# Altium integrated library Maxim Digital Potentiometers.IntLib: 1045 symbols (part 2 of 42)
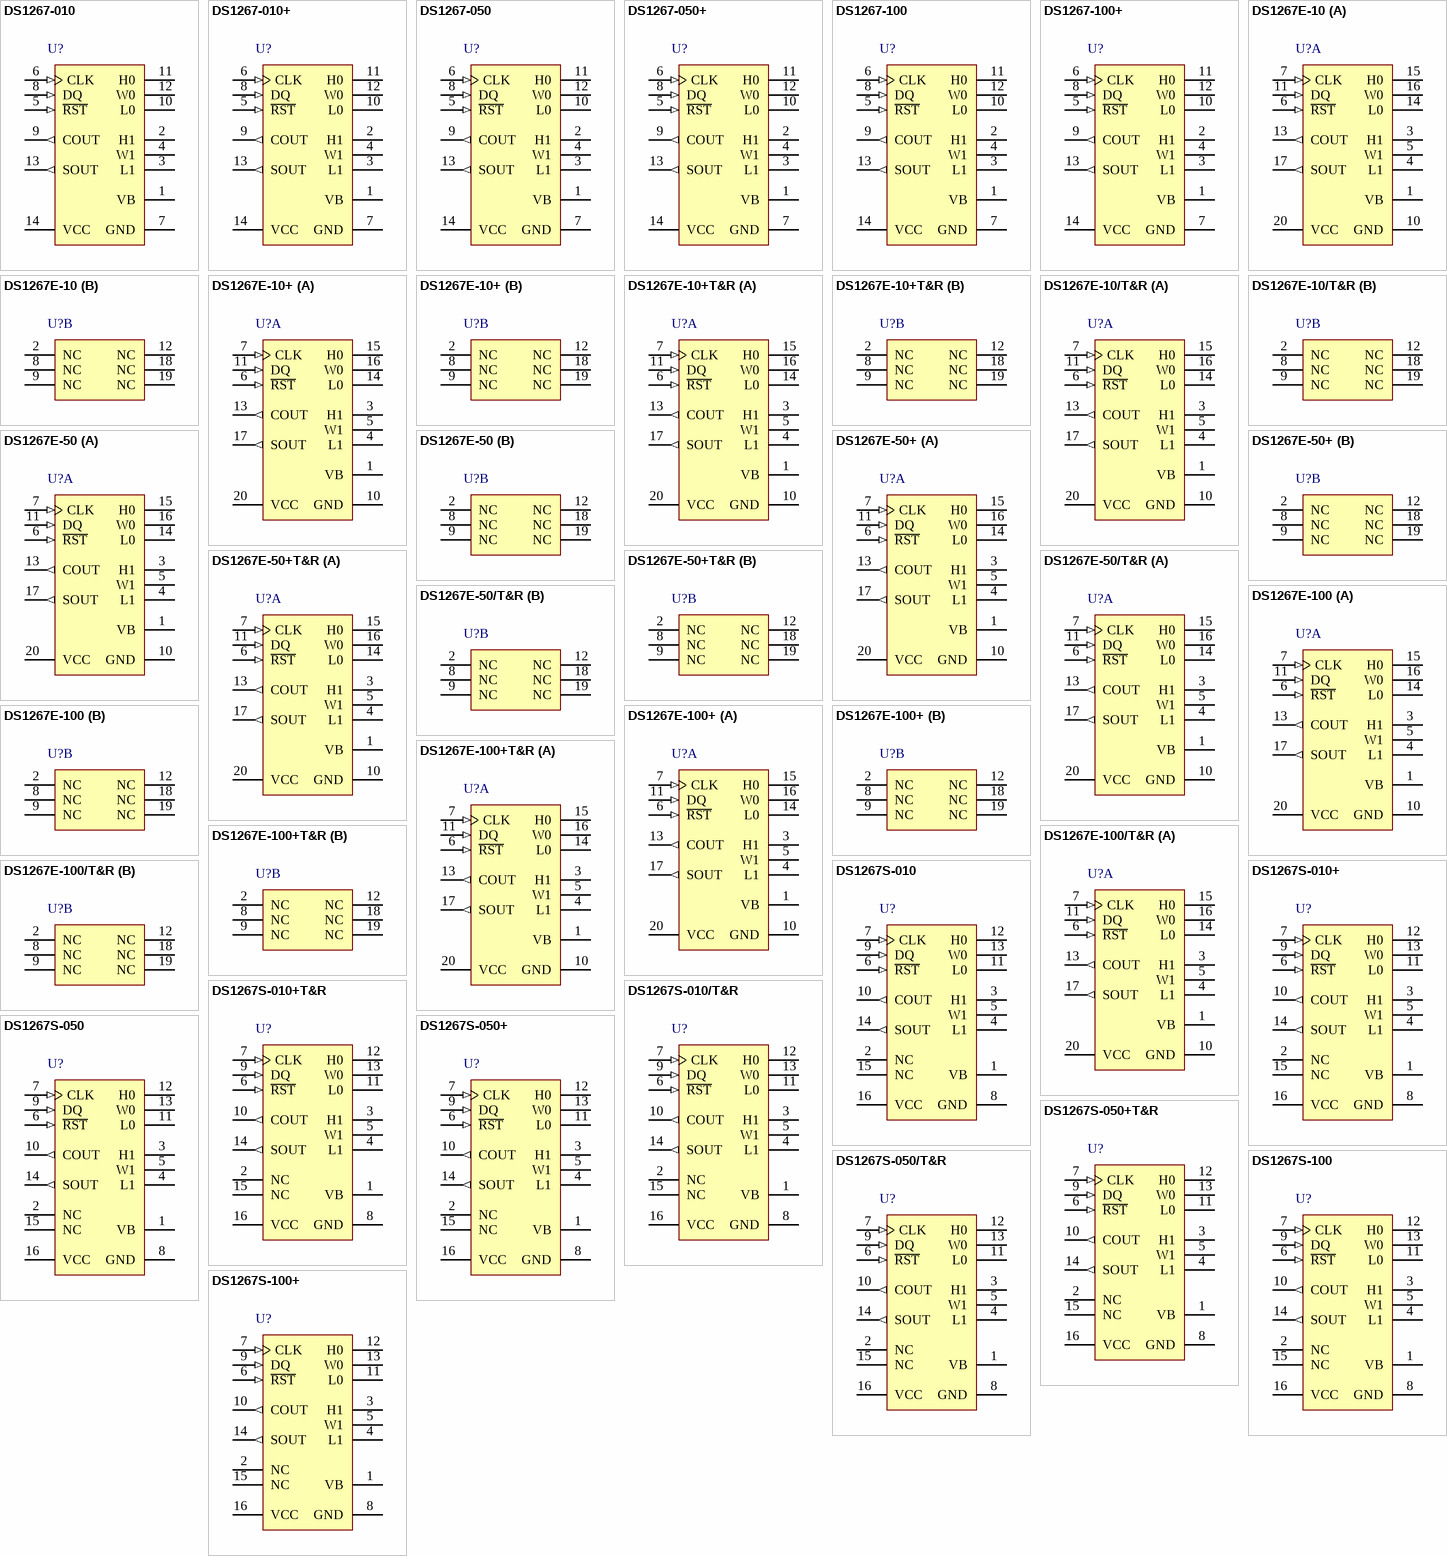
[diagram p30: symbols DS1267-010 to DS1267S-100+]

## DS1267S-100+
designator U?
Dual Digital Potentiometer Chip with 3-Wire Serial Control Interface, Volatile, Linear Taper, 256 Steps, -40 to 85 degC, 16-pin SOIC (W16+2), Pb-Free; PartNumber: DS1267S-100+; DatasheetVersion: Rev. 1; PackageVersion: Rev. F, 10/2012; PackageReference: W16+2; PackageDescription: 16-Pin Small-Outline IC, Wide (0.3in) (W16+2), Body 10.3 x 7.5 mm, Pitch 1.27 mm; Supplier 1: Digi-Key; Supplier Part Number 1: DS1267S-100+-ND; Supplier 2: Farnell; Supplier Part Number 2: 9726292; Supplier 3: Mouser; Supplier Part Number 3: 700-DS1267S-100; Control Interface: 3-Wire Serial; Mounting Technology: Surface Mount; Code_JEDEC: MS013; ComponentLink1Description: Manufacturer URL; ComponentLink1URL: http://www.maximintegrated.com/; ComponentLink2Description: Datasheet; ComponentLink2URL: http://datasheets.maximintegrated.com/en/ds/DS1267.pdf; ComponentLink3Description: Package Specification; ComponentLink3URL: http://pdfserv.maximintegrated.com/package_dwgs/21-0042.PDF
footprint MAXM-W16+2_N (SOIC, 16-Leads, Body 10.3x7.5mm, Pitch 1.27mm, IPC Medium Density)
footprint MAXM-W16+2_L (SOIC, 16-Leads, Body 10.3x7.5mm, Pitch 1.27mm, IPC High Density)
footprint MAXM-W16+2_M (SOIC, 16-Leads, Body 10.3x7.5mm, Pitch 1.27mm, IPC Low Density)
pins: 1 VB (power) "Substrate Bias Voltage", 2 NC "No Internal Connection", 3 H1 "High End of Resistor", 4 L1 "Low End of Resistor", 5 W1 "Wiper Terminal of Resistor", 6 ~{RST} (in) "Serial Port Reset Input", 7 CLK (in) "Serial Port Clock Input", 8 GND (power) "Ground Connections", 9 DQ (in) "Serial Port Data Input", 10 COUT (out) "Cascade Port Output", 11 L0 "Low End of Resistor", 12 H0 "High End of Resistor", 13 W0 "Wiper Terminal of Resistor", 14 SOUT (out) "Stacked Configuration Output", 15 NC "No Internal Connection", 16 VCC (power) "+5 Volt Supply"

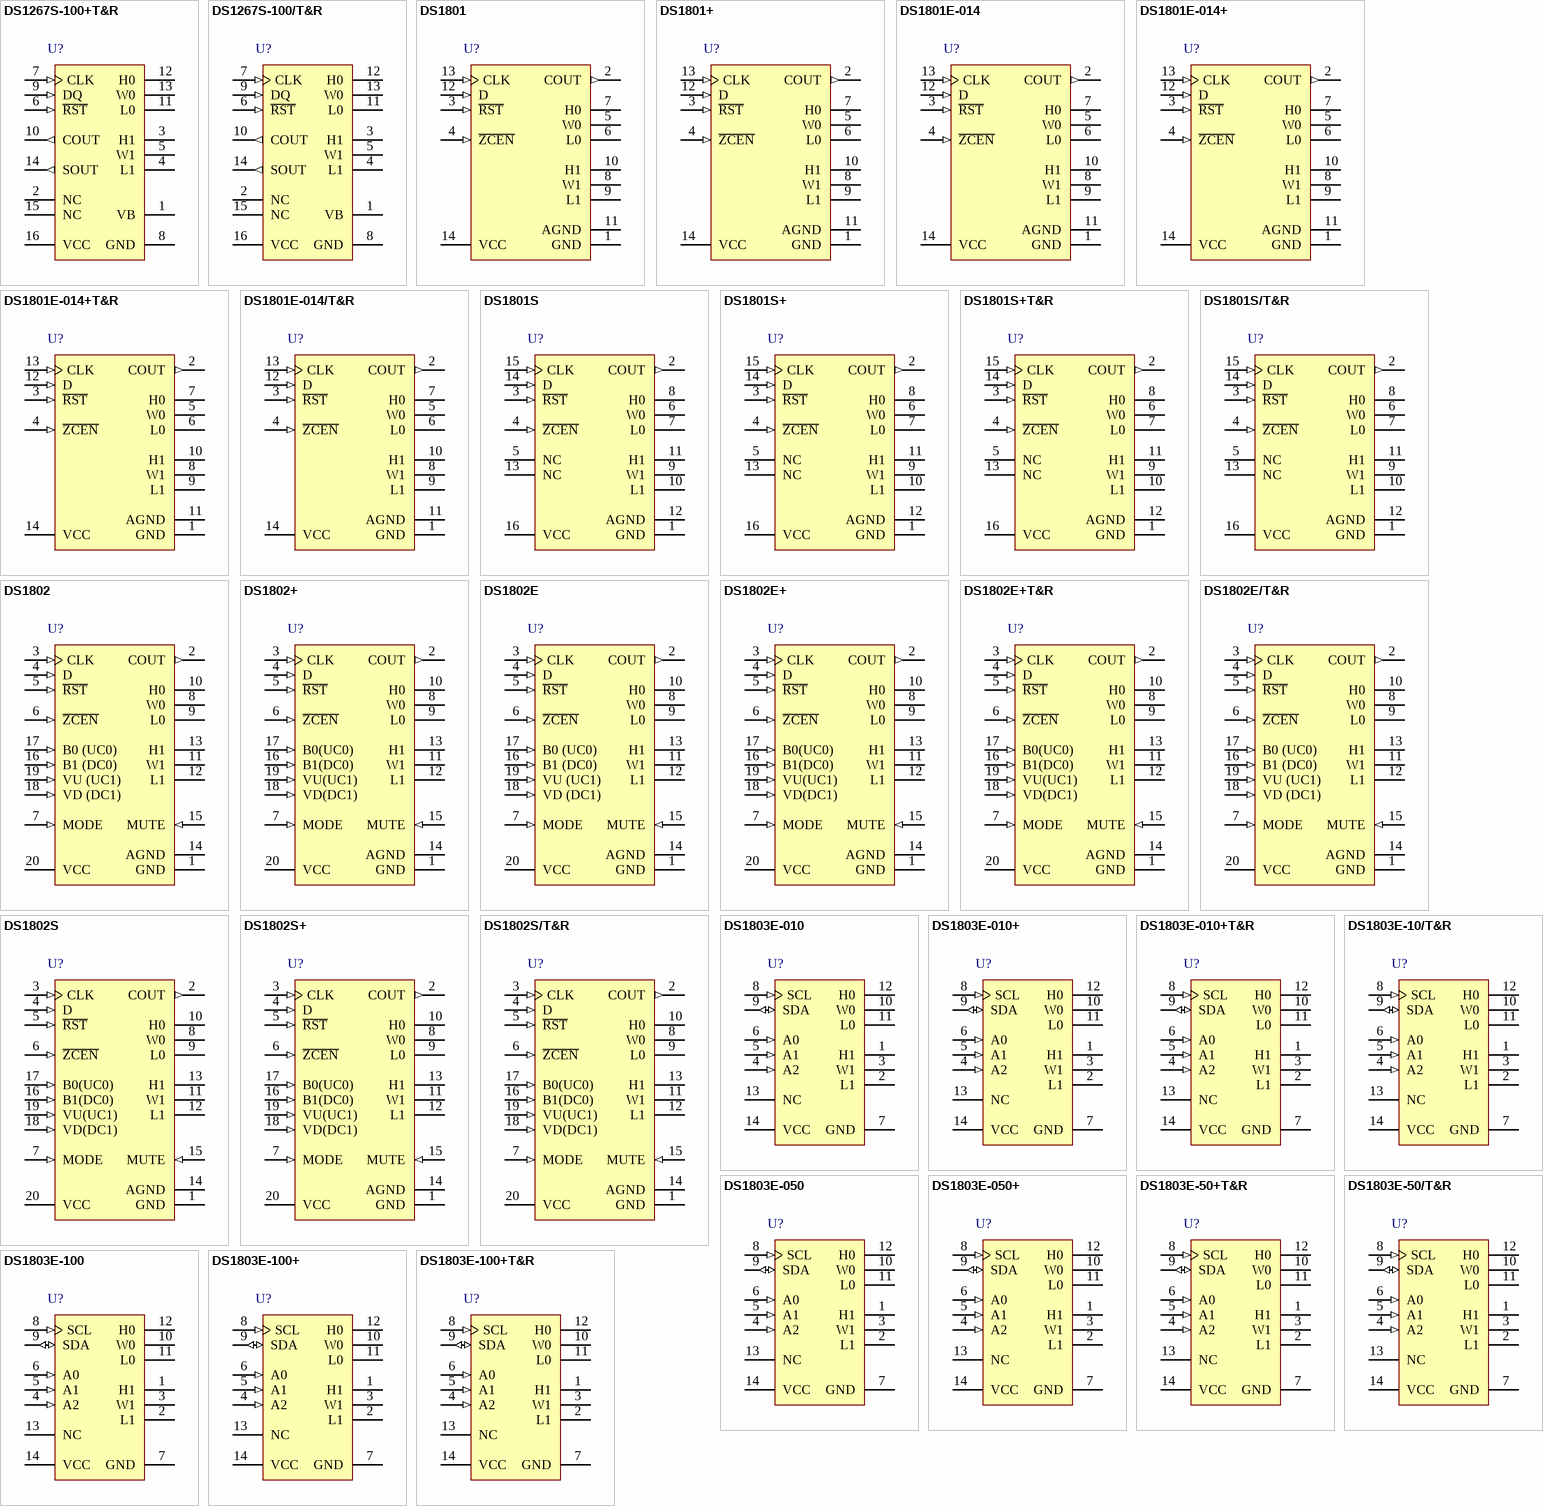
[diagram p1: symbols DS1267S-100+T&R to DS1803E-100+T&R]

## DS1267S-100+T&R
designator U?
Dual Digital Potentiometer Chip with 3-Wire Serial Control Interface, Volatile, Linear Taper, 256 Steps, -40 to 85 degC, 16-pin SOIC (W16+2), Pb-Free, Tape and Reel; PartNumber: DS1267S-100+T&R; DatasheetVersion: Rev. 1; PackageVersion: Rev. F, 10/2012; PackageReference: W16+2; PackageDescription: 16-Pin Small-Outline IC, Wide (0.3in) (W16+2), Body 10.3 x 7.5 mm, Pitch 1.27 mm; Supplier 1: Digi-Key; Supplier Part Number 1: DS1267S-100+T&R-ND; Supplier 2: Mouser; Supplier Part Number 2: 700-DS1267S-100T&R; Control Interface: 3-Wire Serial; Mounting Technology: Surface Mount; Code_JEDEC: MS013; ComponentLink1Description: Manufacturer URL; ComponentLink1URL: http://www.maximintegrated.com/; ComponentLink2Description: Datasheet; ComponentLink2URL: http://datasheets.maximintegrated.com/en/ds/DS1267.pdf; ComponentLink3Description: Package Specification; ComponentLink3URL: http://pdfserv.maximintegrated.com/package_dwgs/21-0042.PDF
footprint MAXM-W16+2_N (SOIC, 16-Leads, Body 10.3x7.5mm, Pitch 1.27mm, IPC Medium Density)
footprint MAXM-W16+2_L (SOIC, 16-Leads, Body 10.3x7.5mm, Pitch 1.27mm, IPC High Density)
footprint MAXM-W16+2_M (SOIC, 16-Leads, Body 10.3x7.5mm, Pitch 1.27mm, IPC Low Density)
pins: 1 VB (power) "Substrate Bias Voltage", 2 NC "No Internal Connection", 3 H1 "High End of Resistor", 4 L1 "Low End of Resistor", 5 W1 "Wiper Terminal of Resistor", 6 ~{RST} (in) "Serial Port Reset Input", 7 CLK (in) "Serial Port Clock Input", 8 GND (power) "Ground Connections", 9 DQ (in) "Serial Port Data Input", 10 COUT (out) "Cascade Port Output", 11 L0 "Low End of Resistor", 12 H0 "High End of Resistor", 13 W0 "Wiper Terminal of Resistor", 14 SOUT (out) "Stacked Configuration Output", 15 NC "No Internal Connection", 16 VCC (power) "+5 Volt Supply"

## DS1267S-100/T&R
designator U?
Dual Digital Potentiometer Chip with 3-Wire Serial Control Interface, Volatile, Linear Taper, 256 Steps, -40 to 85 degC, 16-pin SOIC (W16-2), Tape and Reel; PartNumber: DS1267S-100/T&R; DatasheetVersion: Rev. 1; PackageVersion: Rev. F, 10/2012; PackageReference: W16-2; PackageDescription: 16-Pin Small-Outline IC, Wide (0.3in) (W16-2), Body 10.3 x 7.5 mm, Pitch 1.27 mm; Supplier 1: Digi-Key; Supplier Part Number 1: DS1267S-100/T&R-ND; Supplier 2: Mouser; Supplier Part Number 2: N/A; Control Interface: 3-Wire Serial; Mounting Technology: Surface Mount; Code_JEDEC: MS013; ComponentLink1Description: Manufacturer URL; ComponentLink1URL: http://www.maximintegrated.com/; ComponentLink2Description: Datasheet; ComponentLink2URL: http://datasheets.maximintegrated.com/en/ds/DS1267.pdf; ComponentLink3Description: Package Specification; ComponentLink3URL: http://pdfserv.maximintegrated.com/package_dwgs/21-0042.PDF
footprint MAXM-W16-2_N (SOIC, 16-Leads, Body 10.3x7.5mm, Pitch 1.27mm, IPC Medium Density)
footprint MAXM-W16-2_L (SOIC, 16-Leads, Body 10.3x7.5mm, Pitch 1.27mm, IPC High Density)
footprint MAXM-W16-2_M (SOIC, 16-Leads, Body 10.3x7.5mm, Pitch 1.27mm, IPC Low Density)
pins: 1 VB (power) "Substrate Bias Voltage", 2 NC "No Internal Connection", 3 H1 "High End of Resistor", 4 L1 "Low End of Resistor", 5 W1 "Wiper Terminal of Resistor", 6 ~{RST} (in) "Serial Port Reset Input", 7 CLK (in) "Serial Port Clock Input", 8 GND (power) "Ground Connections", 9 DQ (in) "Serial Port Data Input", 10 COUT (out) "Cascade Port Output", 11 L0 "Low End of Resistor", 12 H0 "High End of Resistor", 13 W0 "Wiper Terminal of Resistor", 14 SOUT (out) "Stacked Configuration Output", 15 NC "No Internal Connection", 16 VCC (power) "+5 Volt Supply"

## DS1801
designator U?
Dual Audio Taper Potentiometer with 3-Wire Serial Control Interface, Volatile, Log Taper, 64 Steps, -40 to 85 degC, 14-pin PDIP (P14-3); PartNumber: DS1801; PackageVersion: Rev. E, 04/2011; PackageReference: P14-3; PackageDescription: 14-Pin Plastic Dual-In-Line, Narrow (0.3in), Body 19.05 x 6.985 mm, Pitch 2.54 mm; Supplier 1: Digi-Key; Supplier Part Number 1: DS1801-ND; Supplier 2: Mouser; Supplier Part Number 2: N/A; Applications: Audio Control, Car Stereo ,Portable Audio ,Portable Consumer ,Stereo Volume Control; Control Interface: 3-Wire Serial; Features: Mute, User-Configurable Attenuation Options; Mounting Technology: Through Hole; Code_JEDEC: MS001-XX; ComponentLink1Description: Manufacturer URL; ComponentLink1URL: http://www.maximintegrated.com/; ComponentLink2Description: Datasheet; ComponentLink2URL: http://datasheets.maximintegrated.com/en/ds/DS1801.pdf; ComponentLink3Description: Package Specification; ComponentLink3URL: http://pdfserv.maximintegrated.com/package_dwgs/21-0043.PDF
footprint MAXM-P14-3 (DIP, 14-Leads, Body 19.05x6.985mm, Pitch 2.54mm)
pins: 1 GND (power) "Digital Ground", 2 COUT (out) "Cascade Output", 3 ~{RST} (in) "Serial Port Reset Input", 4 ~{ZCEN} (in) "Zero-Crossing Detect Input", 5 W0 "Wiper End of Resistor", 6 L0 "Low End of Resistor", 7 H0 "High End of Resistor", 8 W1 "Wiper End of Resistor", 9 L1 "Low End of Resistor", 10 H1 "High End of Resistor", 11 AGND (power) "Analog Ground", 12 D (in) "Serial Port Data Input", 13 CLK (in) "Serial Port Clock Input", 14 VCC (power) "3V or 5V Power Supply Input"

## DS1801+
designator U?
Dual Audio Taper Potentiometer with 3-Wire Serial Control Interface, Volatile, Log Taper, 64 Steps, -40 to 85 degC, 14-pin PDIP (P14+3), Pb-Free; PartNumber: DS1801+; PackageVersion: Rev. E, 04/2011; PackageReference: P14+3; PackageDescription: 14-Pin Plastic Dual-In-Line, Narrow (0.3in) (P14+3), Body 19.05 x 6.985 mm, Pitch 2.54 mm; Supplier 1: Digi-Key; Supplier Part Number 1: DS1801+-ND; Supplier 2: Mouser; Supplier Part Number 2: 700-DS1801; Applications: Audio Control, Car Stereo ,Portable Audio ,Portable Consumer ,Stereo Volume Control; Control Interface: 3-Wire Serial; Features: Mute, User-Configurable Attenuation Options; Mounting Technology: Through Hole; Code_JEDEC: MS001-XX; ComponentLink1Description: Manufacturer URL; ComponentLink1URL: http://www.maximintegrated.com/; ComponentLink2Description: Datasheet; ComponentLink2URL: http://datasheets.maximintegrated.com/en/ds/DS1801.pdf; ComponentLink3Description: Package Specification; ComponentLink3URL: http://pdfserv.maximintegrated.com/package_dwgs/21-0043.PDF
footprint MAXM-P14+3 (DIP, 14-Leads, Body 19.05x6.985mm, Pitch 2.54mm)
pins: 1 GND (power) "Digital Ground", 2 COUT (out) "Cascade Output", 3 ~{RST} (in) "Serial Port Reset Input", 4 ~{ZCEN} (in) "Zero-Crossing Detect Input", 5 W0 "Wiper End of Resistor", 6 L0 "Low End of Resistor", 7 H0 "High End of Resistor", 8 W1 "Wiper End of Resistor", 9 L1 "Low End of Resistor", 10 H1 "High End of Resistor", 11 AGND (power) "Analog Ground", 12 D (in) "Serial Port Data Input", 13 CLK (in) "Serial Port Clock Input", 14 VCC (power) "3V or 5V Power Supply Input"

## DS1801E-014
designator U?
Dual Audio Taper Potentiometer with 3-Wire Serial Control Interface, Volatile, Log Taper, 64 Steps, -40 to 85 degC, 14-pin TSSOP (U14-1); PartNumber: DS1801E-014; PackageVersion: Rev. L, 07/2010; PackageReference: U14-1; PackageDescription: 14-Pin Thin Shrink Small-Outline Package (U14-1), Body 5 x 4.4 mm, Pitch 0.65 mm; Supplier 1: Digi-Key; Supplier Part Number 1: DS1801E-014-ND; Supplier 2: Mouser; Supplier Part Number 2: N/A; Applications: Audio Control, Car Stereo ,Portable Audio ,Portable Consumer ,Stereo Volume Control; Control Interface: 3-Wire Serial; Features: Mute, User-Configurable Attenuation Options; Mounting Technology: Surface Mount; Code_JEDEC: MO-153; ComponentLink1Description: Manufacturer URL; ComponentLink1URL: http://www.maximintegrated.com/; ComponentLink2Description: Datasheet; ComponentLink2URL: http://datasheets.maximintegrated.com/en/ds/DS1801.pdf; ComponentLink3Description: Package Specification; ComponentLink3URL: http://pdfserv.maximintegrated.com/package_dwgs/21-0066.PDF
footprint MAXM-U14-1_N (SOP, 14-Leads, Body 5x4.4mm, Pitch 0.65mm, IPC Medium Density)
footprint MAXM-U14-1_L (SOP, 14-Leads, Body 5x4.4mm, Pitch 0.65mm, IPC High Density)
footprint MAXM-U14-1_M (SOP, 14-Leads, Body 5x4.4mm, Pitch 0.65mm, IPC Low Density)
pins: 1 GND (power) "Digital Ground", 2 COUT (out) "Cascade Output", 3 ~{RST} (in) "Serial Port Reset Input", 4 ~{ZCEN} (in) "Zero-Crossing Detect Input", 5 W0 "Wiper End of Resistor", 6 L0 "Low End of Resistor", 7 H0 "High End of Resistor", 8 W1 "Wiper End of Resistor", 9 L1 "Low End of Resistor", 10 H1 "High End of Resistor", 11 AGND (power) "Analog Ground", 12 D (in) "Serial Port Data Input", 13 CLK (in) "Serial Port Clock Input", 14 VCC (power) "3V or 5V Power Supply Input"

## DS1801E-014+
designator U?
Dual Audio Taper Potentiometer with 3-Wire Serial Control Interface, Volatile, Log Taper, 64 Steps, -40 to 85 degC, 14-pin TSSOP (U14+1), Pb-Free; PartNumber: DS1801E-014+; PackageVersion: Rev. L, 07/2010; PackageReference: U14+1; PackageDescription: 14-Pin Thin Shrink Small-Outline Package (U14+1), Body 5 x 4.4 mm, Pitch 0.65 mm; Supplier 1: Digi-Key; Supplier Part Number 1: DS1801E-014+-ND; Supplier 2: Mouser; Supplier Part Number 2: 700-DS1801E-014; Applications: Audio Control, Car Stereo ,Portable Audio ,Portable Consumer ,Stereo Volume Control; Control Interface: 3-Wire Serial; Features: Mute, User-Configurable Attenuation Options; Mounting Technology: Surface Mount; Code_JEDEC: MO-153; ComponentLink1Description: Manufacturer URL; ComponentLink1URL: http://www.maximintegrated.com/; ComponentLink2Description: Datasheet; ComponentLink2URL: http://datasheets.maximintegrated.com/en/ds/DS1801.pdf; ComponentLink3Description: Package Specification; ComponentLink3URL: http://pdfserv.maximintegrated.com/package_dwgs/21-0066.PDF
footprint MAXM-U14+1_N (SOP, 14-Leads, Body 5x4.4mm, Pitch 0.65mm, IPC Medium Density)
footprint MAXM-U14+1_L (SOP, 14-Leads, Body 5x4.4mm, Pitch 0.65mm, IPC High Density)
footprint MAXM-U14+1_M (SOP, 14-Leads, Body 5x4.4mm, Pitch 0.65mm, IPC Low Density)
pins: 1 GND (power) "Digital Ground", 2 COUT (out) "Cascade Output", 3 ~{RST} (in) "Serial Port Reset Input", 4 ~{ZCEN} (in) "Zero-Crossing Detect Input", 5 W0 "Wiper End of Resistor", 6 L0 "Low End of Resistor", 7 H0 "High End of Resistor", 8 W1 "Wiper End of Resistor", 9 L1 "Low End of Resistor", 10 H1 "High End of Resistor", 11 AGND (power) "Analog Ground", 12 D (in) "Serial Port Data Input", 13 CLK (in) "Serial Port Clock Input", 14 VCC (power) "3V or 5V Power Supply Input"

## DS1801E-014+T&R
designator U?
Dual Audio Taper Potentiometer with 3-Wire Serial Control Interface, Volatile, Log Taper, 64 Steps, -40 to 85 degC, 14-pin TSSOP (U14+1), Pb-Free, Tape and Reel; PartNumber: DS1801E-014+T&R; PackageVersion: Rev. L, 07/2010; PackageReference: U14+1; PackageDescription: 14-Pin Thin Shrink Small-Outline Package (U14+1), Body 5 x 4.4 mm, Pitch 0.65 mm; Supplier 1: Digi-Key; Supplier Part Number 1: DS1801E-014+T&R-ND; Supplier 2: Mouser; Supplier Part Number 2: 700-DS1801E-014T&R; Applications: Audio Control, Car Stereo ,Portable Audio ,Portable Consumer ,Stereo Volume Control; Control Interface: 3-Wire Serial; Features: Mute, User-Configurable Attenuation Options; Mounting Technology: Surface Mount; Code_JEDEC: MO-153; ComponentLink1Description: Manufacturer URL; ComponentLink1URL: http://www.maximintegrated.com/; ComponentLink2Description: Datasheet; ComponentLink2URL: http://datasheets.maximintegrated.com/en/ds/DS1801.pdf; ComponentLink3Description: Package Specification; ComponentLink3URL: http://pdfserv.maximintegrated.com/package_dwgs/21-0066.PDF
footprint MAXM-U14+1_N (SOP, 14-Leads, Body 5x4.4mm, Pitch 0.65mm, IPC Medium Density)
footprint MAXM-U14+1_L (SOP, 14-Leads, Body 5x4.4mm, Pitch 0.65mm, IPC High Density)
footprint MAXM-U14+1_M (SOP, 14-Leads, Body 5x4.4mm, Pitch 0.65mm, IPC Low Density)
pins: 1 GND (power) "Digital Ground", 2 COUT (out) "Cascade Output", 3 ~{RST} (in) "Serial Port Reset Input", 4 ~{ZCEN} (in) "Zero-Crossing Detect Input", 5 W0 "Wiper End of Resistor", 6 L0 "Low End of Resistor", 7 H0 "High End of Resistor", 8 W1 "Wiper End of Resistor", 9 L1 "Low End of Resistor", 10 H1 "High End of Resistor", 11 AGND (power) "Analog Ground", 12 D (in) "Serial Port Data Input", 13 CLK (in) "Serial Port Clock Input", 14 VCC (power) "3V or 5V Power Supply Input"

## DS1801E-014/T&R
designator U?
Dual Audio Taper Potentiometer with 3-Wire Serial Control Interface, Volatile, Log Taper, 64 Steps, -40 to 85 degC, 14-pin TSSOP (U14-1), Tape and Reel; PartNumber: DS1801E-014/T&R; PackageVersion: Rev. L, 07/2010; PackageReference: U14-1; PackageDescription: 14-Pin Thin Shrink Small-Outline Package (U14-1), Body 5 x 4.4 mm, Pitch 0.65 mm; Supplier 1: Digi-Key; Supplier Part Number 1: DS1801E-014/T&R-ND; Supplier 2: Mouser; Supplier Part Number 2: N/A; Applications: Audio Control, Car Stereo ,Portable Audio ,Portable Consumer ,Stereo Volume Control; Control Interface: 3-Wire Serial; Features: Mute, User-Configurable Attenuation Options; Mounting Technology: Surface Mount; Code_JEDEC: MO-153; ComponentLink1Description: Manufacturer URL; ComponentLink1URL: http://www.maximintegrated.com/; ComponentLink2Description: Datasheet; ComponentLink2URL: http://datasheets.maximintegrated.com/en/ds/DS1801.pdf; ComponentLink3Description: Package Specification; ComponentLink3URL: http://pdfserv.maximintegrated.com/package_dwgs/21-0066.PDF
footprint MAXM-U14-1_N (SOP, 14-Leads, Body 5x4.4mm, Pitch 0.65mm, IPC Medium Density)
footprint MAXM-U14-1_L (SOP, 14-Leads, Body 5x4.4mm, Pitch 0.65mm, IPC High Density)
footprint MAXM-U14-1_M (SOP, 14-Leads, Body 5x4.4mm, Pitch 0.65mm, IPC Low Density)
pins: 1 GND (power) "Digital Ground", 2 COUT (out) "Cascade Output", 3 ~{RST} (in) "Serial Port Reset Input", 4 ~{ZCEN} (in) "Zero-Crossing Detect Input", 5 W0 "Wiper End of Resistor", 6 L0 "Low End of Resistor", 7 H0 "High End of Resistor", 8 W1 "Wiper End of Resistor", 9 L1 "Low End of Resistor", 10 H1 "High End of Resistor", 11 AGND (power) "Analog Ground", 12 D (in) "Serial Port Data Input", 13 CLK (in) "Serial Port Clock Input", 14 VCC (power) "3V or 5V Power Supply Input"

## DS1801S
designator U?
Dual Audio Taper Potentiometer with 3-Wire Serial Control Interface, Volatile, Log Taper, 64 Steps, -40 to 85 degC, 16-pin SOIC (W16-2); PartNumber: DS1801S; PackageVersion: Rev. F, 10/2012; PackageReference: W16-2; PackageDescription: 16-Pin Small-Outline IC, Wide (0.3in) (W16-2), Body 10.3 x 7.5 mm, Pitch 1.27 mm; Supplier 1: Digi-Key; Supplier Part Number 1: DS1801S-ND; Supplier 2: Mouser; Supplier Part Number 2: 700-DS1801S-NR; Applications: Audio Control, Car Stereo ,Portable Audio ,Portable Consumer ,Stereo Volume Control; Control Interface: 3-Wire Serial; Features: Mute, User-Configurable Attenuation Options; Mounting Technology: Surface Mount; Code_JEDEC: MS013; ComponentLink1Description: Manufacturer URL; ComponentLink1URL: http://www.maximintegrated.com/; ComponentLink2Description: Datasheet; ComponentLink2URL: http://datasheets.maximintegrated.com/en/ds/DS1801.pdf; ComponentLink3Description: Package Specification; ComponentLink3URL: http://pdfserv.maximintegrated.com/package_dwgs/21-0042.PDF
footprint MAXM-W16-2_N (SOIC, 16-Leads, Body 10.3x7.5mm, Pitch 1.27mm, IPC Medium Density)
footprint MAXM-W16-2_L (SOIC, 16-Leads, Body 10.3x7.5mm, Pitch 1.27mm, IPC High Density)
footprint MAXM-W16-2_M (SOIC, 16-Leads, Body 10.3x7.5mm, Pitch 1.27mm, IPC Low Density)
pins: 1 GND (power) "Digital Ground", 2 COUT (out) "Cascade Output", 3 ~{RST} (in) "Serial Port Reset Input", 4 ~{ZCEN} (in) "Zero-Crossing Detect Input", 5 NC "No Connect", 6 W0 "Wiper End of Resistor", 7 L0 "Low End of Resistor", 8 H0 "High End of Resistor", 9 W1 "Wiper End of Resistor", 10 L1 "Low End of Resistor", 11 H1 "High End of Resistor", 12 AGND (power) "Analog Ground", 13 NC "No Connect", 14 D (in) "Serial Port Data Input", 15 CLK (in) "Serial Port Clock Input", 16 VCC (power) "3V or 5V Power Supply Input"

## DS1801S+
designator U?
Dual Audio Taper Potentiometer with 3-Wire Serial Control Interface, Volatile, Log Taper, 64 Steps, -40 to 85 degC, 16-pin SOIC (W16+2), Pb-Free,; PartNumber: DS1801S+; PackageVersion: Rev. F, 10/2012; PackageReference: W16+2; PackageDescription: 16-Pin Small-Outline IC, Wide (0.3in) (W16+2), Body 10.3 x 7.5 mm, Pitch 1.27 mm; Supplier 1: Digi-Key; Supplier Part Number 1: DS1801S+-ND; Supplier 2: Farnell; Supplier Part Number 2: 9726225; Supplier 3: Newark; Supplier Part Number 3: 96K8887; Supplier 4: Mouser; Supplier Part Number 4: 700-DS1801S; Applications: Audio Control, Car Stereo ,Portable Audio ,Portable Consumer ,Stereo Volume Control; Control Interface: 3-Wire Serial; Features: Mute, User-Configurable Attenuation Options; Mounting Technology: Surface Mount; Code_JEDEC: MS013; ComponentLink1Description: Manufacturer URL; ComponentLink1URL: http://www.maximintegrated.com/; ComponentLink2Description: Datasheet; ComponentLink2URL: http://datasheets.maximintegrated.com/en/ds/DS1801.pdf; ComponentLink3Description: Package Specification; ComponentLink3URL: http://pdfserv.maximintegrated.com/package_dwgs/21-0042.PDF
footprint MAXM-W16+2_N (SOIC, 16-Leads, Body 10.3x7.5mm, Pitch 1.27mm, IPC Medium Density)
footprint MAXM-W16+2_L (SOIC, 16-Leads, Body 10.3x7.5mm, Pitch 1.27mm, IPC High Density)
footprint MAXM-W16+2_M (SOIC, 16-Leads, Body 10.3x7.5mm, Pitch 1.27mm, IPC Low Density)
pins: 1 GND (power) "Digital Ground", 2 COUT (out) "Cascade Output", 3 ~{RST} (in) "Serial Port Reset Input", 4 ~{ZCEN} (in) "Zero-Crossing Detect Input", 5 NC "No Connect", 6 W0 "Wiper End of Resistor", 7 L0 "Low End of Resistor", 8 H0 "High End of Resistor", 9 W1 "Wiper End of Resistor", 10 L1 "Low End of Resistor", 11 H1 "High End of Resistor", 12 AGND (power) "Analog Ground", 13 NC "No Connect", 14 D (in) "Serial Port Data Input", 15 CLK (in) "Serial Port Clock Input", 16 VCC (power) "3V or 5V Power Supply Input"

## DS1801S+T&R
designator U?
Dual Audio Taper Potentiometer with 3-Wire Serial Control Interface, Volatile, Log Taper, 64 Steps, -40 to 85 degC, 16-pin SOIC (W16+2), Pb-Free, Tape and Reel; PartNumber: DS1801S+T&R; PackageVersion: Rev. F, 10/2012; PackageReference: W16+2; PackageDescription: 16-Pin Small-Outline IC, Wide (0.3in) (W16+2), Body 10.3 x 7.5 mm, Pitch 1.27 mm; Supplier 1: Digi-Key; Supplier Part Number 1: DS1801S+T&R-ND; Supplier 2: Mouser; Supplier Part Number 2: 700-DS1801ST&R; Applications: Audio Control, Car Stereo ,Portable Audio ,Portable Consumer ,Stereo Volume Control; Control Interface: 3-Wire Serial; Features: Mute, User-Configurable Attenuation Options; Mounting Technology: Surface Mount; Code_JEDEC: MS013; ComponentLink1Description: Manufacturer URL; ComponentLink1URL: http://www.maximintegrated.com/; ComponentLink2Description: Datasheet; ComponentLink2URL: http://datasheets.maximintegrated.com/en/ds/DS1801.pdf; ComponentLink3Description: Package Specification; ComponentLink3URL: http://pdfserv.maximintegrated.com/package_dwgs/21-0042.PDF
footprint MAXM-W16+2_N (SOIC, 16-Leads, Body 10.3x7.5mm, Pitch 1.27mm, IPC Medium Density)
footprint MAXM-W16+2_L (SOIC, 16-Leads, Body 10.3x7.5mm, Pitch 1.27mm, IPC High Density)
footprint MAXM-W16+2_M (SOIC, 16-Leads, Body 10.3x7.5mm, Pitch 1.27mm, IPC Low Density)
pins: 1 GND (power) "Digital Ground", 2 COUT (out) "Cascade Output", 3 ~{RST} (in) "Serial Port Reset Input", 4 ~{ZCEN} (in) "Zero-Crossing Detect Input", 5 NC "No Connect", 6 W0 "Wiper End of Resistor", 7 L0 "Low End of Resistor", 8 H0 "High End of Resistor", 9 W1 "Wiper End of Resistor", 10 L1 "Low End of Resistor", 11 H1 "High End of Resistor", 12 AGND (power) "Analog Ground", 13 NC "No Connect", 14 D (in) "Serial Port Data Input", 15 CLK (in) "Serial Port Clock Input", 16 VCC (power) "3V or 5V Power Supply Input"

## DS1801S/T&R
designator U?
Dual Audio Taper Potentiometer with 3-Wire Serial Control Interface, Volatile, Log Taper, 64 Steps, -40 to 85 degC, 16-pin SOIC (W16-2), Tape and Reel; PartNumber: DS1801S/T&R; PackageVersion: Rev. F, 10/2012; PackageReference: W16-2; PackageDescription: 16-Pin Small-Outline IC, Wide (0.3in) (W16-2), Body 10.3 x 7.5 mm, Pitch 1.27 mm; Supplier 1: Digi-Key; Supplier Part Number 1: DS1801S/T&R-ND; Supplier 2: Mouser; Supplier Part Number 2: N/A; Applications: Audio Control, Car Stereo ,Portable Audio ,Portable Consumer ,Stereo Volume Control; Control Interface: 3-Wire Serial; Features: Mute, User-Configurable Attenuation Options; Mounting Technology: Surface Mount; Code_JEDEC: MS013; ComponentLink1Description: Manufacturer URL; ComponentLink1URL: http://www.maximintegrated.com/; ComponentLink2Description: Datasheet; ComponentLink2URL: http://datasheets.maximintegrated.com/en/ds/DS1801.pdf; ComponentLink3Description: Package Specification; ComponentLink3URL: http://pdfserv.maximintegrated.com/package_dwgs/21-0042.PDF
footprint MAXM-W16-2_N (SOIC, 16-Leads, Body 10.3x7.5mm, Pitch 1.27mm, IPC Medium Density)
footprint MAXM-W16-2_L (SOIC, 16-Leads, Body 10.3x7.5mm, Pitch 1.27mm, IPC High Density)
footprint MAXM-W16-2_M (SOIC, 16-Leads, Body 10.3x7.5mm, Pitch 1.27mm, IPC Low Density)
pins: 1 GND (power) "Digital Ground", 2 COUT (out) "Cascade Output", 3 ~{RST} (in) "Serial Port Reset Input", 4 ~{ZCEN} (in) "Zero-Crossing Detect Input", 5 NC "No Connect", 6 W0 "Wiper End of Resistor", 7 L0 "Low End of Resistor", 8 H0 "High End of Resistor", 9 W1 "Wiper End of Resistor", 10 L1 "Low End of Resistor", 11 H1 "High End of Resistor", 12 AGND (power) "Analog Ground", 13 NC "No Connect", 14 D (in) "Serial Port Data Input", 15 CLK (in) "Serial Port Clock Input", 16 VCC (power) "3V or 5V Power Supply Input"

## DS1802
designator U?
Dual Audio Taper Potentiometer with 3-Wire Serial and Push-Button (Up/Down) Control Interface, Volatile, Log Taper, 64 Steps, -40 to 85 degC, 20-pin PDIP (P20-3); PartNumber: DS1802; DatasheetVersion: Rev. 1; PackageVersion: Rev. E, 04/2011; PackageReference: P20-3; PackageDescription: 20-Pin Plastic Dual-In-Line, Narrow (0.3in) (P20-3), Body 26.16 x 6.985 mm, Pitch 2.54 mm; Supplier 1: Digi-Key; Supplier Part Number 1: DS1802-ND; Supplier 2: Newark; Supplier Part Number 2: 16F9978; Supplier 3: Mouser; Supplier Part Number 3: N/A; Applications: Audio Control, Car Stereo ,Desktop Speakers ,Portable Audio ,Portable Consumer ,Stereo Volume Control; Control Interface: 3-Wire Serial and Push-Button (Up/Down); Features: Mute, Ultra Low Power Consumption ,User-Configurable Attenuation Options; Mounting Technology: Through Hole; Code_JEDEC: MS001-XX; ComponentLink1Description: Manufacturer URL; ComponentLink1URL: http://www.maximintegrated.com/; ComponentLink2Description: Datasheet; ComponentLink2URL: http://datasheets.maximintegrated.com/en/ds/DS1802.pdf; ComponentLink3Description: Package Specification; ComponentLink3URL: http://pdfserv.maximintegrated.com/package_dwgs/21-0043.PDF
footprint MAXM-P20-3 (DIP, 20-Leads, Body 26.16x6.985mm, Pitch 2.54mm)
pins: 1 GND (power) "Digital Ground", 2 COUT (out) "Cascade Output", 3 CLK (in) "Serial Port Clock Input", 4 D (in) "Serial Port Data Input", 5 ~{RST} (in) "Serial Port Reset Input", 6 ~{ZCEN} (in) "Zero-Crossing Detect Input", 7 MODE (in) "Mode Select Input", 8 W0 "Wiper End of Resistor", 9 L0 "Low End of Resistor", 10 H0 "High End of Resistor", 11 W1 "Wiper End of Resistor", 12 L1 "Low End of Resistor", 13 H1 "High End of Resistor", 14 AGND (power) "Analog Ground", 15 MUTE (in) "Mute", 16 B1 (DC0) (in), 17 B0 (UC0) (in), 18 VD (DC1) (in), 19 VU (UC1) (in), 20 VCC (power) "3V/5V Power Supply Input"

## DS1802+
designator U?
Dual Audio Taper Potentiometer with 3-Wire Serial and Push-Button (Up/Down) Control Interface, Volatile, Log Taper, 64 Steps, -40 to 85 degC, 20-pin PDIP (P20+3), Pb-Free; PartNumber: DS1802+; DatasheetVersion: Rev. 1; PackageVersion: Rev. E, 04/2011; PackageReference: P20+3; PackageDescription: 20-Pin Plastic Dual-In-Line, Narrow (0.3in) (P20+3), Body 26.16 x 6.985 mm, Pitch 2.54 mm; Supplier 1: Digi-Key; Supplier Part Number 1: DS1802+-ND; Supplier 2: Farnell; Supplier Part Number 2: 1188071; Supplier 3: Newark; Supplier Part Number 3: 96K8888; Supplier 4: Mouser; Supplier Part Number 4: 700-DS1802; Applications: Audio Control, Car Stereo ,Desktop Speakers ,Portable Audio ,Portable Consumer ,Stereo Volume Control; Control Interface: 3-Wire Serial and Push-Button (Up/Down); Features: Mute, Ultra Low Power Consumption ,User-Configurable Attenuation Options; Mounting Technology: Through Hole; Code_JEDEC: MS001-XX; ComponentLink1Description: Manufacturer URL; ComponentLink1URL: http://www.maximintegrated.com/; ComponentLink2Description: Datasheet; ComponentLink2URL: http://datasheets.maximintegrated.com/en/ds/DS1802.pdf; ComponentLink3Description: Package Specification; ComponentLink3URL: http://pdfserv.maximintegrated.com/package_dwgs/21-0043.PDF
footprint MAXM-P20+3 (DIP, 20-Leads, Body 26.16x6.985mm, Pitch 2.54mm)
pins: 1 GND (power) "Digital Ground", 2 COUT (out) "Cascade Output", 3 CLK (in) "Serial Port Clock Input", 4 D (in) "Serial Port Data Input", 5 ~{RST} (in) "Serial Port Reset Input", 6 ~{ZCEN} (in) "Zero-Crossing Detect Input", 7 MODE (in) "Mode Select Input", 8 W0 "Wiper End of Resistor", 9 L0 "Low End of Resistor", 10 H0 "High End of Resistor", 11 W1 "Wiper End of Resistor", 12 L1 "Low End of Resistor", 13 H1 "High End of Resistor", 14 AGND (power) "Analog Ground", 15 MUTE (in) "Mute", 16 B1(DC0) (in), 17 B0(UC0) (in), 18 VD(DC1) (in), 19 VU(UC1) (in), 20 VCC (power) "3V/5V Power Supply Input"

## DS1802E
designator U?
Dual Audio Taper Potentiometer with 3-Wire Serial and Push-Button (Up/Down) Control Interface, Volatile, Log Taper, 64 Steps, -40 to 85 degC, 20-pin TSSOP (U20-1); PartNumber: DS1802E; DatasheetVersion: Rev. 1; PackageVersion: Rev. L, 07/2010; PackageReference: U20-1; PackageDescription: 20-Pin Thin Shrink Small-Outline Package (U20-1), Body 6.5 x 4.4 mm, Pitch 0.65 mm; Supplier 1: Digi-Key; Supplier Part Number 1: DS1802E-ND; Supplier 2: Mouser; Supplier Part Number 2: N/A; Applications: Audio Control, Car Stereo ,Desktop Speakers ,Portable Audio ,Portable Consumer ,Stereo Volume Control; Control Interface: 3-Wire Serial and Push-Button (Up/Down); Features: Mute, Ultra Low Power Consumption ,User-Configurable Attenuation Options; Mounting Technology: Surface Mount; Code_JEDEC: MO-153; ComponentLink1Description: Manufacturer URL; ComponentLink1URL: http://www.maximintegrated.com/; ComponentLink2Description: Datasheet; ComponentLink2URL: http://datasheets.maximintegrated.com/en/ds/DS1802.pdf; ComponentLink3Description: Package Specification; ComponentLink3URL: http://pdfserv.maximintegrated.com/package_dwgs/21-0066.PDF
footprint MAXM-U20-1_N (SOP, 20-Leads, Body 6.5x4.40mm, Pitch 0.65mm, IPC Medium Density)
footprint MAXM-U20-1_L (SOP, 20-Leads, Body 6.5x4.40mm, Pitch 0.65mm, IPC High Density)
footprint MAXM-U20-1_M (SOP, 20-Leads, Body 6.5x4.40mm, Pitch 0.65mm, IPC Low Density)
pins: 1 GND (power) "Digital Ground", 2 COUT (out) "Cascade Output", 3 CLK (in) "Serial Port Clock Input", 4 D (in) "Serial Port Data Input", 5 ~{RST} (in) "Serial Port Reset Input", 6 ~{ZCEN} (in) "Zero-Crossing Detect Input", 7 MODE (in) "Mode Select Input", 8 W0 "Wiper End of Resistor", 9 L0 "Low End of Resistor", 10 H0 "High End of Resistor", 11 W1 "Wiper End of Resistor", 12 L1 "Low End of Resistor", 13 H1 "High End of Resistor", 14 AGND (power) "Analog Ground", 15 MUTE (in) "Mute", 16 B1 (DC0) (in), 17 B0 (UC0) (in), 18 VD (DC1) (in), 19 VU (UC1) (in), 20 VCC (power) "3V/5V Power Supply Input"

## DS1802E+
designator U?
Dual Audio Taper Potentiometer with 3-Wire Serial and Push-Button (Up/Down) Control Interface, Volatile, Log Taper, 64 Steps, -40 to 85 degC, 20-pin TSSOP (U20+1), Pb-Free; PartNumber: DS1802E+; DatasheetVersion: Rev. 1; PackageVersion: Rev. L, 07/2010; PackageReference: U20+1; PackageDescription: 20-Pin Thin Shrink Small-Outline Package (U20+1), Body 6.5 x4.4 mm, Pitch 0.65 mm; Supplier 1: Digi-Key; Supplier Part Number 1: DS1802E+-ND; Supplier 2: Mouser; Supplier Part Number 2: 700-DS1802E; Applications: Audio Control, Car Stereo ,Desktop Speakers ,Portable Audio ,Portable Consumer ,Stereo Volume Control; Control Interface: 3-Wire Serial and Push-Button (Up/Down); Features: Mute, Ultra Low Power Consumption ,User-Configurable Attenuation Options; Mounting Technology: Surface Mount; Code_JEDEC: MO-153; ComponentLink1Description: Manufacturer URL; ComponentLink1URL: http://www.maximintegrated.com/; ComponentLink2Description: Datasheet; ComponentLink2URL: http://datasheets.maximintegrated.com/en/ds/DS1802.pdf; ComponentLink3Description: Package Specification; ComponentLink3URL: http://pdfserv.maximintegrated.com/package_dwgs/21-0066.PDF
footprint MAXM-U20+1_N (SOP, 20-Leads, Body 6.5x4.4mm, Pitch 0.65mm, IPC Medium Density)
footprint MAXM-U20+1_L (SOP, 20-Leads, Body 6.5x4.4mm, Pitch 0.65mm, IPC High Density)
footprint MAXM-U20+1_M (SOP, 20-Leads, Body 6.5x4.4mm, Pitch 0.65mm, IPC Low Density)
pins: 1 GND (power) "Digital Ground", 2 COUT (out) "Cascade Output", 3 CLK (in) "Serial Port Clock Input", 4 D (in) "Serial Port Data Input", 5 ~{RST} (in) "Serial Port Reset Input", 6 ~{ZCEN} (in) "Zero-Crossing Detect Input", 7 MODE (in) "Mode Select Input", 8 W0 "Wiper End of Resistor", 9 L0 "Low End of Resistor", 10 H0 "High End of Resistor", 11 W1 "Wiper End of Resistor", 12 L1 "Low End of Resistor", 13 H1 "High End of Resistor", 14 AGND (power) "Analog Ground", 15 MUTE (in) "Mute", 16 B1(DC0) (in), 17 B0(UC0) (in), 18 VD(DC1) (in), 19 VU(UC1) (in), 20 VCC (power) "3V/5V Power Supply Input"

## DS1802E+T&R
designator U?
Dual Audio Taper Potentiometer with 3-Wire Serial and Push-Button (Up/Down) Control Interface, Volatile, Log Taper, 64 Steps, -40 to 85 degC, 20-pin TSSOP (U20+1), Pb-Free, Tape and Reel; PartNumber: DS1802E+T&R; DatasheetVersion: Rev. 1; PackageVersion: Rev. L, 07/2010; PackageReference: U20+1; PackageDescription: 20-Pin Thin Shrink Small-Outline Package (U20+1), Body 6.5 x4.4 mm, Pitch 0.65 mm; Supplier 1: Digi-Key; Supplier Part Number 1: DS1802E+T&R-ND; Supplier 2: Mouser; Supplier Part Number 2: 700-DS1802ET&R; Applications: Audio Control, Car Stereo ,Desktop Speakers ,Portable Audio ,Portable Consumer ,Stereo Volume Control; Control Interface: 3-Wire Serial and Push-Button (Up/Down); Features: Mute, Ultra Low Power Consumption ,User-Configurable Attenuation Options; Mounting Technology: Surface Mount; Code_JEDEC: MO-153; ComponentLink1Description: Manufacturer URL; ComponentLink1URL: http://www.maximintegrated.com/; ComponentLink2Description: Datasheet; ComponentLink2URL: http://datasheets.maximintegrated.com/en/ds/DS1802.pdf; ComponentLink3Description: Package Specification; ComponentLink3URL: http://pdfserv.maximintegrated.com/package_dwgs/21-0066.PDF
footprint MAXM-U20+1_N (SOP, 20-Leads, Body 6.5x4.4mm, Pitch 0.65mm, IPC Medium Density)
footprint MAXM-U20+1_L (SOP, 20-Leads, Body 6.5x4.4mm, Pitch 0.65mm, IPC High Density)
footprint MAXM-U20+1_M (SOP, 20-Leads, Body 6.5x4.4mm, Pitch 0.65mm, IPC Low Density)
pins: 1 GND (power) "Digital Ground", 2 COUT (out) "Cascade Output", 3 CLK (in) "Serial Port Clock Input", 4 D (in) "Serial Port Data Input", 5 ~{RST} (in) "Serial Port Reset Input", 6 ~{ZCEN} (in) "Zero-Crossing Detect Input", 7 MODE (in) "Mode Select Input", 8 W0 "Wiper End of Resistor", 9 L0 "Low End of Resistor", 10 H0 "High End of Resistor", 11 W1 "Wiper End of Resistor", 12 L1 "Low End of Resistor", 13 H1 "High End of Resistor", 14 AGND (power) "Analog Ground", 15 MUTE (in) "Mute", 16 B1(DC0) (in), 17 B0(UC0) (in), 18 VD(DC1) (in), 19 VU(UC1) (in), 20 VCC (power) "3V/5V Power Supply Input"

## DS1802E/T&R
designator U?
Dual Audio Taper Potentiometer with 3-Wire Serial and Push-Button (Up/Down) Control Interface, Volatile, Log Taper, 64 Steps, -40 to 85 degC, 20-pin TSSOP (U20-1), Tape and Reel; PartNumber: DS1802E/T&R; DatasheetVersion: Rev. 1; PackageVersion: Rev. L, 07/2010; PackageReference: U20-1; PackageDescription: 20-Pin Thin Shrink Small-Outline Package (U20-1), Body 6.5 x 4.4 mm, Pitch 0.65 mm; Supplier 1: Digi-Key; Supplier Part Number 1: DS1802E/T&R-ND; Supplier 2: Mouser; Supplier Part Number 2: N/A; Applications: Audio Control, Car Stereo ,Desktop Speakers ,Portable Audio ,Portable Consumer ,Stereo Volume Control; Control Interface: 3-Wire Serial and Push-Button (Up/Down); Features: Mute, Ultra Low Power Consumption ,User-Configurable Attenuation Options; Mounting Technology: Surface Mount; Code_JEDEC: MO-153; ComponentLink1Description: Manufacturer URL; ComponentLink1URL: http://www.maximintegrated.com/; ComponentLink2Description: Datasheet; ComponentLink2URL: http://datasheets.maximintegrated.com/en/ds/DS1802.pdf; ComponentLink3Description: Package Specification; ComponentLink3URL: http://pdfserv.maximintegrated.com/package_dwgs/21-0066.PDF
footprint MAXM-U20-1_N (SOP, 20-Leads, Body 6.5x4.40mm, Pitch 0.65mm, IPC Medium Density)
footprint MAXM-U20-1_L (SOP, 20-Leads, Body 6.5x4.40mm, Pitch 0.65mm, IPC High Density)
footprint MAXM-U20-1_M (SOP, 20-Leads, Body 6.5x4.40mm, Pitch 0.65mm, IPC Low Density)
pins: 1 GND (power) "Digital Ground", 2 COUT (out) "Cascade Output", 3 CLK (in) "Serial Port Clock Input", 4 D (in) "Serial Port Data Input", 5 ~{RST} (in) "Serial Port Reset Input", 6 ~{ZCEN} (in) "Zero-Crossing Detect Input", 7 MODE (in) "Mode Select Input", 8 W0 "Wiper End of Resistor", 9 L0 "Low End of Resistor", 10 H0 "High End of Resistor", 11 W1 "Wiper End of Resistor", 12 L1 "Low End of Resistor", 13 H1 "High End of Resistor", 14 AGND (power) "Analog Ground", 15 MUTE (in) "Mute", 16 B1 (DC0) (in), 17 B0 (UC0) (in), 18 VD (DC1) (in), 19 VU (UC1) (in), 20 VCC (power) "3V/5V Power Supply Input"

## DS1802S
designator U?
Dual Audio Taper Potentiometer with 3-Wire Serial and Push-Button (Up/Down) Control Interface, Volatile, Log Taper, 64 Steps, -40 to 85 degC, 20-pin SOIC (W20-3); PartNumber: DS1802S; DatasheetVersion: Rev. 1; PackageVersion: Rev. F, 10/2012; PackageReference: W20-3; PackageDescription: 20-Pin Small-Outline IC, Wide (0.3in), Body 12.8 x 7.5 mm, Pitch 1.27 mm; Supplier 1: Digi-Key; Supplier Part Number 1: DS1802S-ND; Supplier 2: Mouser; Supplier Part Number 2: N/A; Applications: Audio Control, Car Stereo ,Desktop Speakers ,Portable Audio ,Portable Consumer ,Stereo Volume Control; Control Interface: 3-Wire Serial and Push-Button (Up/Down); Features: Mute, Ultra Low Power Consumption ,User-Configurable Attenuation Options; Mounting Technology: Surface Mount; Code_JEDEC: MS013; ComponentLink1Description: Manufacturer URL; ComponentLink1URL: http://www.maximintegrated.com/; ComponentLink2Description: Datasheet; ComponentLink2URL: http://datasheets.maximintegrated.com/en/ds/DS1802.pdf; ComponentLink3Description: Package Specification; ComponentLink3URL: http://pdfserv.maximintegrated.com/package_dwgs/21-0042.PDF
footprint MAXM-W20-3_N (SOIC, 20-Leads, Body 12.8x7.5mm, Pitch 1.27mm, IPC Medium Density)
footprint MAXM-W20-3_L (SOIC, 20-Leads, Body 12.8x7.5mm, Pitch 1.27mm, IPC High Density)
footprint MAXM-W20-3_M (SOIC, 20-Leads, Body 12.8x7.5mm, Pitch 1.27mm, IPC Low Density)
pins: 1 GND (power) "Digital Ground", 2 COUT (out) "Cascade Output", 3 CLK (in) "Serial Port Clock Input", 4 D (in) "Serial Port Data Input", 5 ~{RST} (in) "Serial Port Reset Input", 6 ~{ZCEN} (in) "Zero-Crossing Detect Input", 7 MODE (in) "Mode Select Input", 8 W0 "Wiper End of Resistor", 9 L0 "Low End of Resistor", 10 H0 "High End of Resistor", 11 W1 "Wiper End of Resistor", 12 L1 "Low End of Resistor", 13 H1 "High End of Resistor", 14 AGND (power) "Analog Ground", 15 MUTE (in) "Mute", 16 B1(DC0) (in), 17 B0(UC0) (in), 18 VD(DC1) (in), 19 VU(UC1) (in), 20 VCC (power) "3V/5V Power Supply Input"

## DS1802S+
designator U?
Dual Audio Taper Potentiometer with 3-Wire Serial and Push-Button (Up/Down) Control Interface, Volatile, Log Taper, 64 Steps, -40 to 85 degC, 20-pin SOIC (W20+3), Pb-Free; PartNumber: DS1802S+; DatasheetVersion: Rev. 1; PackageVersion: Rev. F, 10/2012; PackageReference: W20+3; PackageDescription: 20-Pin Small-Outline IC, Wide (0.3in), Body 12.8 x 7.5 mm, Pitch 1.27 mm; Supplier 1: Digi-Key; Supplier Part Number 1: DS1802S+-ND; Supplier 2: Farnell; Supplier Part Number 2: 9726233; Supplier 3: Mouser; Supplier Part Number 3: 700-DS1802S; Applications: Audio Control, Car Stereo ,Desktop Speakers ,Portable Audio ,Portable Consumer ,Stereo Volume Control; Control Interface: 3-Wire Serial and Push-Button (Up/Down); Features: Mute, Ultra Low Power Consumption ,User-Configurable Attenuation Options; Mounting Technology: Surface Mount; Code_JEDEC: MS013; ComponentLink1Description: Manufacturer URL; ComponentLink1URL: http://www.maximintegrated.com/; ComponentLink2Description: Datasheet; ComponentLink2URL: http://datasheets.maximintegrated.com/en/ds/DS1802.pdf; ComponentLink3Description: Package Specification; ComponentLink3URL: http://pdfserv.maximintegrated.com/package_dwgs/21-0042.PDF
footprint MAXM-W20+3_N (SOIC, 20-Leads, Body 12.8x7.5mm, Pitch 1.27mm, IPC Medium Density)
footprint MAXM-W20+3_L (SOIC, 20-Leads, Body 12.8x7.5mm, Pitch 1.27mm, IPC High Density)
footprint MAXM-W20+3_M (SOIC, 20-Leads, Body 12.8x7.5mm, Pitch 1.27mm, IPC Low Density)
pins: 1 GND (power) "Digital Ground", 2 COUT (out) "Cascade Output", 3 CLK (in) "Serial Port Clock Input", 4 D (in) "Serial Port Data Input", 5 ~{RST} (in) "Serial Port Reset Input", 6 ~{ZCEN} (in) "Zero-Crossing Detect Input", 7 MODE (in) "Mode Select Input", 8 W0 "Wiper End of Resistor", 9 L0 "Low End of Resistor", 10 H0 "High End of Resistor", 11 W1 "Wiper End of Resistor", 12 L1 "Low End of Resistor", 13 H1 "High End of Resistor", 14 AGND (power) "Analog Ground", 15 MUTE (in) "Mute", 16 B1(DC0) (in), 17 B0(UC0) (in), 18 VD(DC1) (in), 19 VU(UC1) (in), 20 VCC (power) "3V/5V Power Supply Input"

## DS1802S/T&R
designator U?
Dual Audio Taper Potentiometer with 3-Wire Serial and Push-Button (Up/Down) Control Interface, Volatile, Log Taper, 64 Steps, -40 to 85 degC, 20-pin SOIC (W20-3), Tape and Reel; PartNumber: DS1802S/T&R; DatasheetVersion: Rev. 1; PackageVersion: Rev. F, 10/2012; PackageReference: W20-3; PackageDescription: 20-Pin Small-Outline IC, Wide (0.3in), Body 12.8 x 7.5 mm, Pitch 1.27 mm; Supplier 1: Mouser; Supplier Part Number 1: N/A; Applications: Audio Control, Car Stereo ,Desktop Speakers ,Portable Audio ,Portable Consumer ,Stereo Volume Control; Control Interface: 3-Wire Serial and Push-Button (Up/Down); Features: Mute, Ultra Low Power Consumption ,User-Configurable Attenuation Options; Mounting Technology: Surface Mount; Code_JEDEC: MS013; ComponentLink1Description: Manufacturer URL; ComponentLink1URL: http://www.maximintegrated.com/; ComponentLink2Description: Datasheet; ComponentLink2URL: http://datasheets.maximintegrated.com/en/ds/DS1802.pdf; ComponentLink3Description: Package Specification; ComponentLink3URL: http://pdfserv.maximintegrated.com/package_dwgs/21-0042.PDF
footprint MAXM-W20-3_N (SOIC, 20-Leads, Body 12.8x7.5mm, Pitch 1.27mm, IPC Medium Density)
footprint MAXM-W20-3_L (SOIC, 20-Leads, Body 12.8x7.5mm, Pitch 1.27mm, IPC High Density)
footprint MAXM-W20-3_M (SOIC, 20-Leads, Body 12.8x7.5mm, Pitch 1.27mm, IPC Low Density)
pins: 1 GND (power) "Digital Ground", 2 COUT (out) "Cascade Output", 3 CLK (in) "Serial Port Clock Input", 4 D (in) "Serial Port Data Input", 5 ~{RST} (in) "Serial Port Reset Input", 6 ~{ZCEN} (in) "Zero-Crossing Detect Input", 7 MODE (in) "Mode Select Input", 8 W0 "Wiper End of Resistor", 9 L0 "Low End of Resistor", 10 H0 "High End of Resistor", 11 W1 "Wiper End of Resistor", 12 L1 "Low End of Resistor", 13 H1 "High End of Resistor", 14 AGND (power) "Analog Ground", 15 MUTE (in) "Mute", 16 B1(DC0) (in), 17 B0(UC0) (in), 18 VD(DC1) (in), 19 VU(UC1) (in), 20 VCC (power) "3V/5V Power Supply Input"

## DS1803E-010
designator U?
Dual Digital Potentiometer with 2-Wire Addressable Control Interface, Volatile, Linear Taper, 256 Steps, -40 to 85 degC, 14-pin TSSOP (U14-1); PartNumber: DS1803E-010; DatasheetVersion: Rev. 3; PackageVersion: Rev. L, 07/2010; PackageReference: U14-1; PackageDescription: 14-Pin Thin Shrink Small-Outline Package (U14-1), Body 5 x 4.4 mm, Pitch 0.65 mm; Supplier 1: Digi-Key; Supplier Part Number 1: DS1803E-010-ND; Supplier 2: Mouser; Supplier Part Number 2: N/A; Control Interface: 2-Wire Addressable; Mounting Technology: Surface Mount; Code_JEDEC: MO-153; ComponentLink1Description: Manufacturer URL; ComponentLink1URL: http://www.maximintegrated.com/; ComponentLink2Description: Datasheet; ComponentLink2URL: http://datasheets.maximintegrated.com/en/ds/DS1803.pdf; ComponentLink3Description: Package Specification; ComponentLink3URL: http://pdfserv.maximintegrated.com/package_dwgs/21-0066.PDF
footprint MAXM-U14-1_N (SOP, 14-Leads, Body 5x4.4mm, Pitch 0.65mm, IPC Medium Density)
footprint MAXM-U14-1_L (SOP, 14-Leads, Body 5x4.4mm, Pitch 0.65mm, IPC High Density)
footprint MAXM-U14-1_M (SOP, 14-Leads, Body 5x4.4mm, Pitch 0.65mm, IPC Low Density)
pins: 1 H1 "High End of Resistor", 2 L1 "Low End of Resistor", 3 W1 "Wiper terminal of Resistor", 4 A2 (in) "Chip Select Inputs", 5 A1 (in) "Chip Select Inputs", 6 A0 (in) "Chip Select Inputs", 7 GND (power) "Ground", 8 SCL (in) "Serial Clock Input", 9 SDA (io) "Serial Data I/O", 10 W0 "Wiper terminal of Resistor", 11 L0 "Low End of Resistor", 12 H0 "High End of Resistor", 13 NC "No Connection", 14 VCC (power) "3V/5V Power Supply Input"

## DS1803E-010+
designator U?
Dual Digital Potentiometer with 2-Wire Addressable Control Interface, Volatile, Linear Taper, 256 Steps, -40 to 85 degC, 14-pin TSSOP (U14+1), Pb-Free; PartNumber: DS1803E-010+; DatasheetVersion: Rev. 3; PackageVersion: Rev. L, 07/2010; PackageReference: U14+1; PackageDescription: 14-Pin Thin Shrink Small-Outline Package (U14+1), Body 5 x 4.4 mm, Pitch 0.65 mm; Supplier 1: Digi-Key; Supplier Part Number 1: DS1803E-010+-ND; Supplier 2: Farnell; Supplier Part Number 2: 2072020; Supplier 3: Newark; Supplier Part Number 3: 88H0424; Supplier 4: Mouser; Supplier Part Number 4: 700-DS1803E-010; Control Interface: 2-Wire Addressable; Mounting Technology: Surface Mount; Code_JEDEC: MO-153; ComponentLink1Description: Manufacturer URL; ComponentLink1URL: http://www.maximintegrated.com/; ComponentLink2Description: Datasheet; ComponentLink2URL: http://datasheets.maximintegrated.com/en/ds/DS1803.pdf; ComponentLink3Description: Package Specification; ComponentLink3URL: http://pdfserv.maximintegrated.com/package_dwgs/21-0066.PDF
footprint MAXM-U14+1_N (SOP, 14-Leads, Body 5x4.4mm, Pitch 0.65mm, IPC Medium Density)
footprint MAXM-U14+1_L (SOP, 14-Leads, Body 5x4.4mm, Pitch 0.65mm, IPC High Density)
footprint MAXM-U14+1_M (SOP, 14-Leads, Body 5x4.4mm, Pitch 0.65mm, IPC Low Density)
pins: 1 H1 "High End of Resistor", 2 L1 "Low End of Resistor", 3 W1 "Wiper terminal of Resistor", 4 A2 (in) "Chip Select Inputs", 5 A1 (in) "Chip Select Inputs", 6 A0 (in) "Chip Select Inputs", 7 GND (power) "Ground", 8 SCL (in) "Serial Clock Input", 9 SDA (io) "Serial Data I/O", 10 W0 "Wiper terminal of Resistor", 11 L0 "Low End of Resistor", 12 H0 "High End of Resistor", 13 NC "No Connection", 14 VCC (power) "3V/5V Power Supply Input"

## DS1803E-010+T&R
designator U?
Dual Digital Potentiometer with 2-Wire Addressable Control Interface, Volatile, Linear Taper, 256 Steps, -40 to 85 degC, 14-pin TSSOP (U14+1), Pb-Free, Tape and Reel; PartNumber: DS1803E-010+T&R; DatasheetVersion: Rev. 3; PackageVersion: Rev. L, 07/2010; PackageReference: U14+1; PackageDescription: 14-Pin Thin Shrink Small-Outline Package (U14+1), Body 5 x 4.4 mm, Pitch 0.65 mm; Supplier 1: Digi-Key; Supplier Part Number 1: DS1803E-010+T&R-ND; Supplier 2: Mouser; Supplier Part Number 2: 700-DS1803E-010T&R; Control Interface: 2-Wire Addressable; Mounting Technology: Surface Mount; Code_JEDEC: MO-153; ComponentLink1Description: Manufacturer URL; ComponentLink1URL: http://www.maximintegrated.com/; ComponentLink2Description: Datasheet; ComponentLink2URL: http://datasheets.maximintegrated.com/en/ds/DS1803.pdf; ComponentLink3Description: Package Specification; ComponentLink3URL: http://pdfserv.maximintegrated.com/package_dwgs/21-0066.PDF
footprint MAXM-U14+1_N (SOP, 14-Leads, Body 5x4.4mm, Pitch 0.65mm, IPC Medium Density)
footprint MAXM-U14+1_L (SOP, 14-Leads, Body 5x4.4mm, Pitch 0.65mm, IPC High Density)
footprint MAXM-U14+1_M (SOP, 14-Leads, Body 5x4.4mm, Pitch 0.65mm, IPC Low Density)
pins: 1 H1 "High End of Resistor", 2 L1 "Low End of Resistor", 3 W1 "Wiper terminal of Resistor", 4 A2 (in) "Chip Select Inputs", 5 A1 (in) "Chip Select Inputs", 6 A0 (in) "Chip Select Inputs", 7 GND (power) "Ground", 8 SCL (in) "Serial Clock Input", 9 SDA (io) "Serial Data I/O", 10 W0 "Wiper terminal of Resistor", 11 L0 "Low End of Resistor", 12 H0 "High End of Resistor", 13 NC "No Connection", 14 VCC (power) "3V/5V Power Supply Input"

## DS1803E-10/T&R
designator U?
Dual Digital Potentiometer with 2-Wire Addressable Control Interface, Volatile, Linear Taper, 256 Steps, -40 to 85 degC, 14-pin TSSOP (U14-1), Tape and Reel; PartNumber: DS1803E-10/T&R; DatasheetVersion: Rev. 3; PackageVersion: Rev. L, 07/2010; PackageReference: U14-1; PackageDescription: 14-Pin Thin Shrink Small-Outline Package (U14-1), Body 5 x 4.4 mm, Pitch 0.65 mm; Supplier 1: Digi-Key; Supplier Part Number 1: DS1803E-10/T&R-ND; Supplier 2: Mouser; Supplier Part Number 2: N/A; Control Interface: 2-Wire Addressable; Mounting Technology: Surface Mount; Code_JEDEC: MO-153; ComponentLink1Description: Manufacturer URL; ComponentLink1URL: http://www.maximintegrated.com/; ComponentLink2Description: Datasheet; ComponentLink2URL: http://datasheets.maximintegrated.com/en/ds/DS1803.pdf; ComponentLink3Description: Package Specification; ComponentLink3URL: http://pdfserv.maximintegrated.com/package_dwgs/21-0066.PDF
footprint MAXM-U14-1_N (SOP, 14-Leads, Body 5x4.4mm, Pitch 0.65mm, IPC Medium Density)
footprint MAXM-U14-1_L (SOP, 14-Leads, Body 5x4.4mm, Pitch 0.65mm, IPC High Density)
footprint MAXM-U14-1_M (SOP, 14-Leads, Body 5x4.4mm, Pitch 0.65mm, IPC Low Density)
pins: 1 H1 "High End of Resistor", 2 L1 "Low End of Resistor", 3 W1 "Wiper terminal of Resistor", 4 A2 (in) "Chip Select Inputs", 5 A1 (in) "Chip Select Inputs", 6 A0 (in) "Chip Select Inputs", 7 GND (power) "Ground", 8 SCL (in) "Serial Clock Input", 9 SDA (io) "Serial Data I/O", 10 W0 "Wiper terminal of Resistor", 11 L0 "Low End of Resistor", 12 H0 "High End of Resistor", 13 NC "No Connection", 14 VCC (power) "3V/5V Power Supply Input"

## DS1803E-050
designator U?
Dual Digital Potentiometer with 2-Wire Addressable Control Interface, Volatile, Linear Taper, 256 Steps, -40 to 85 degC, 14-pin TSSOP (U14-1); PartNumber: DS1803E-050; DatasheetVersion: Rev. 3; PackageVersion: Rev. L, 07/2010; PackageReference: U14-1; PackageDescription: 14-Pin Thin Shrink Small-Outline Package (U14-1), Body 5 x 4.4 mm, Pitch 0.65 mm; Supplier 1: Digi-Key; Supplier Part Number 1: DS1803E-050-ND; Supplier 2: Mouser; Supplier Part Number 2: N/A; Control Interface: 2-Wire Addressable; Mounting Technology: Surface Mount; Code_JEDEC: MO-153; ComponentLink1Description: Manufacturer URL; ComponentLink1URL: http://www.maximintegrated.com/; ComponentLink2Description: Datasheet; ComponentLink2URL: http://datasheets.maximintegrated.com/en/ds/DS1803.pdf; ComponentLink3Description: Package Specification; ComponentLink3URL: http://pdfserv.maximintegrated.com/package_dwgs/21-0066.PDF
footprint MAXM-U14-1_N (SOP, 14-Leads, Body 5x4.4mm, Pitch 0.65mm, IPC Medium Density)
footprint MAXM-U14-1_L (SOP, 14-Leads, Body 5x4.4mm, Pitch 0.65mm, IPC High Density)
footprint MAXM-U14-1_M (SOP, 14-Leads, Body 5x4.4mm, Pitch 0.65mm, IPC Low Density)
pins: 1 H1 "High End of Resistor", 2 L1 "Low End of Resistor", 3 W1 "Wiper terminal of Resistor", 4 A2 (in) "Chip Select Inputs", 5 A1 (in) "Chip Select Inputs", 6 A0 (in) "Chip Select Inputs", 7 GND (power) "Ground", 8 SCL (in) "Serial Clock Input", 9 SDA (io) "Serial Data I/O", 10 W0 "Wiper terminal of Resistor", 11 L0 "Low End of Resistor", 12 H0 "High End of Resistor", 13 NC "No Connection", 14 VCC (power) "3V/5V Power Supply Input"